# EAGLE library part SN74AVC4T245 (library laforge)
IC @VQFN16: exp pad float or GND
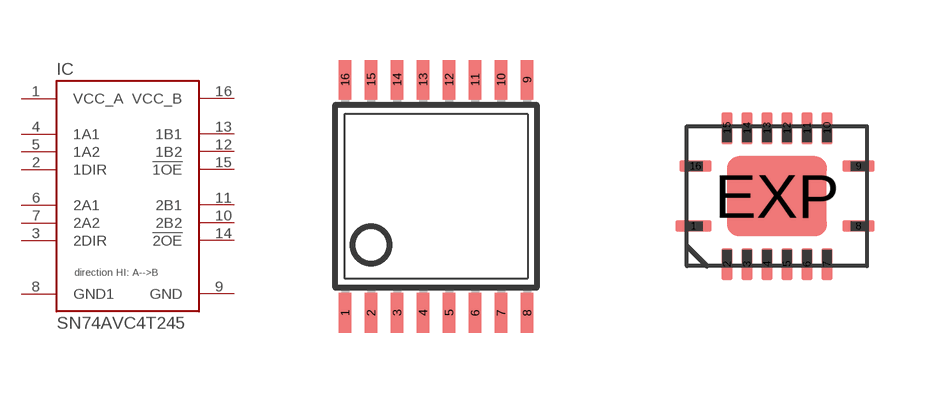
[diagram p9: symbol with the pads of TSSOP16; footprints TSSOP16, VQFN-N16]

Designator prefix IC

## SN74AVC4T245 (OC_DIGIKEY: 296-18056-1-ND)  [TSSOP16]
1  VCC_A
2  1DIR  in
3  2DIR  in
4  1A1
5  1A2
6  2A1
7  2A2
8  GND1  pas
9  GND  pas
10  2B2
11  2B1
12  1B2
13  1B1
14  !2OE  in
15  !1OE  in
16  VCC_B  pwr

## SN74AVC4T245-VQFN  [VQFN-N16]
Pads as for TSSOP16

## Footprint TSSOP16 (pad centres in mm)
smd 0.305 x 0.991: 1 -2.275,-2.918; 2 -1.625,-2.918; 3 -0.975,-2.918; 4 -0.325,-2.918; 5 0.325,-2.918; 6 0.975,-2.918; 7 1.625,-2.918; 8 2.275,-2.918; 9 2.275,2.918; 10 1.625,2.918; 11 0.975,2.918; 12 0.325,2.918; 13 -0.325,2.918; 14 -0.975,2.918; 15 -1.625,2.918; 16 -2.275,2.918

## Footprint VQFN-N16 (pad centres in mm)
smd 0.9 x 0.28: 1 -2.091,-0.75
smd 0.28 x 0.8: 2 -1.25,-1.7; 3 -0.75,-1.7; 4 -0.25,-1.7; 5 0.25,-1.7; 6 0.75,-1.7; 7 1.25,-1.7; 10 1.25,1.7; 11 0.75,1.7; 12 0.25,1.7; 13 -0.25,1.7; 14 -0.75,1.7; 15 -1.25,1.7
smd 0.8 x 0.28: 8 2.041,-0.75; 9 2.041,0.75; 16 -2.041,0.75
smd 2.5 x 2: EXP 0,0